# Altium schematic symbol library THERMISTOR.Schlib: 1 symbol
Pins are listed as number, name and electrical type; pins without a type are passive.

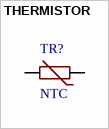
[diagram p0: symbol THERMISTOR]

## THERMISTOR
designator TR?, comment NTC
pins: 1, 2